# Altium footprint library 080 Hole.PcbLib: 1 footprints
Each footprint in its own frame and in the unit in brackets; x right, y up, seen from the top. Pads: shape width x height; smd on the part's side, far side on the other; paste and mask are expansions set on the pad; w line width, h text height; cw(c..) or ccw(c..) is an arc to the next point about the centre after c.
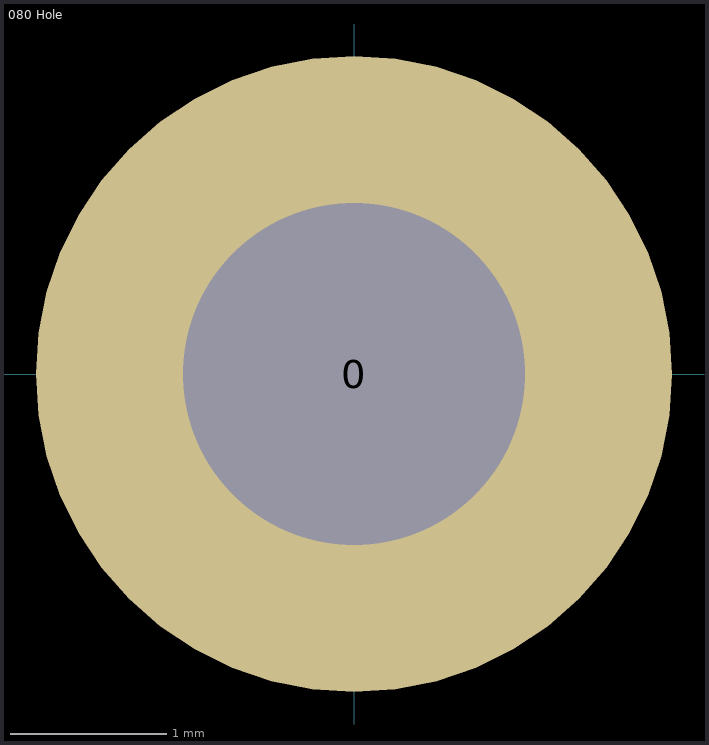
[diagram p0: the footprint, top view; thin cyan lines are the x and y axes]

## 080 Hole [mil] "0.080 Hole for IDI 100410 Battery Contact"
pads (1):
  round 160 hole 86: 0(0,0)
3D body: height 21, standoff 1, extent -75.89,-76.34 76.5,76.35
3D body: height 120, standoff 1, extent -44.64,-44.91 45,44.91
3D body: height 0, standoff -172, extent -39.68,-39.92 40,39.92
3D body: height 180, standoff 120, extent -24.8,-24.95 25,24.95